# EAGLE library part USB_MOLEX_476420001 (library Connectors)
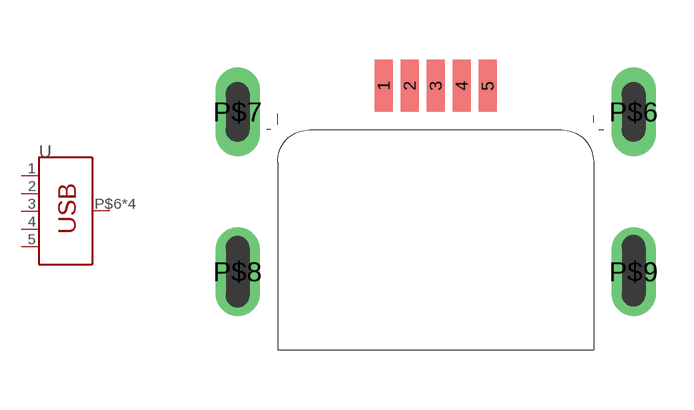
[diagram p3: symbol with the pads of USB_MOLEX_476420001; footprint USB_MOLEX_476420001]

Designator prefix -

## USB_MOLEX_476420001 (MFG: MOLEX; PN: 476420001)  [USB_MOLEX_476420001]
1  VBUS  pwr
2  D-
3  D+
4  ID
5  GND  pwr
P$6  SHIELD
P$7  SHIELD
P$8  SHIELD
P$9  SHIELD

## Footprint USB_MOLEX_476420001 (pad centres in mm)
smd 0.45 x 1.3: 1 -1.3,2.2; 2 -0.65,2.2; 3 0,2.2; 4 0.65,2.2; 5 1.3,2.2
drill 0.6 long: P$6 4.95,1.55; P$7 -4.95,1.55; P$8 -4.95,-2.45; P$9 4.95,-2.45